# EAGLE library part 505110?* (library con-Molex-505110)
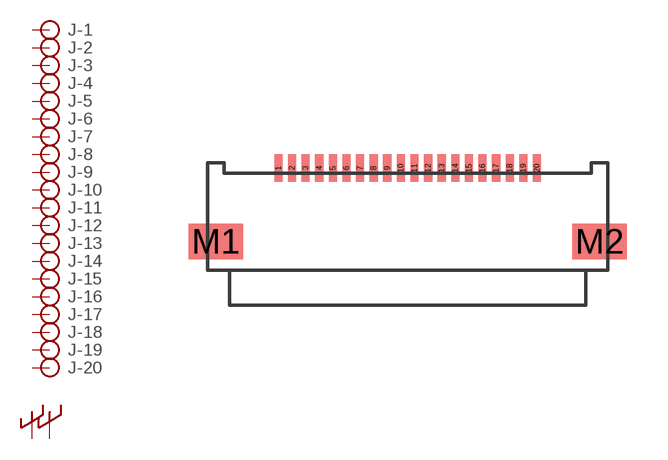
[diagram p0: symbol with the pads of 5051102091; footprint 5051102091]

Designator prefix J; gates -1=PIN -2=PIN -3=PIN -4=PIN -5=PIN -6=PIN -7=PIN -8=PIN -9=PIN -10=PIN -11=PIN -12=PIN -13=PIN -14=PIN -15=PIN -16=PIN -17=PIN -18=PIN -19=PIN -20=PIN -M1=MECHANICAL -M2=MECHANICAL

## 5051102091 (MF: MOLEX; MPN: 5051102091)  [5051102091]
1  -1:P  pas
2  -2:P  pas
3  -3:P  pas
4  -4:P  pas
5  -5:P  pas
6  -6:P  pas
7  -7:P  pas
8  -8:P  pas
9  -9:P  pas
10  -10:P  pas
11  -11:P  pas
12  -12:P  pas
13  -13:P  pas
14  -14:P  pas
15  -15:P  pas
16  -16:P  pas
17  -17:P  pas
18  -18:P  pas
19  -19:P  pas
20  -20:P  pas
M1  -M1:M  pas
M2  -M2:M  pas

## Footprint 5051102091 (pad centres in mm)
smd 0.3 x 1: 1 -4.75,2.7; 2 -4.25,2.7; 3 -3.75,2.7; 4 -3.25,2.7; 5 -2.75,2.7; 6 -2.25,2.7; 7 -1.75,2.7; 8 -1.25,2.7; 9 -0.75,2.7; 10 -0.25,2.7; 11 0.25,2.7; 12 0.75,2.7; 13 1.25,2.7; 14 1.75,2.7; 15 2.25,2.7; 16 2.75,2.7; 17 3.25,2.7; 18 3.75,2.7; 19 4.25,2.7; 20 4.75,2.7
smd 2 x 1.3: M1 -7.05,0; M2 7.05,0